# Altium schematic symbol library M202A.SchLib: 5 symbols
Pins are listed as number, name and electrical type; pins without a type are passive.

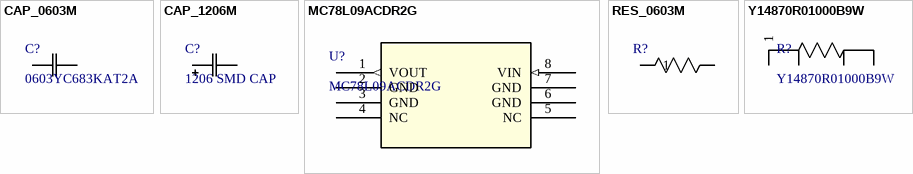
[diagram p0: symbols CAP_0603M to Y14870R01000B9W]

## CAP_0603M
designator C?, comment 0603YC683KAT2A
No Description Available; Mfr_Name: KYOCERA AVX; Type: DEV; Copyright: Copyright (C) 2022 Ultra Librarian. All rights reserved.; Manufacturer_Part_Number: 0603YC683KAT2A; RefDes: RefDes
footprint CAP_0603M
pins: 1 11, 2 12

## CAP_1206M
designator C?, comment 1206 SMD CAP
No Description Available; Mfr_Name: NTE Electronics; Manufacturer_Part_Number: SMC1206K183; Type: DEV; Copyright: Copyright (C) 2022 Ultra Librarian. All rights reserved.; Digi-Key_Part_Number_1: 2368-SMC1206K183-ND; RefDes: RefDes
footprint CAP_1206M (Footprint not found)
pins: 1, 2

## MC78L09ACDR2G
designator U?
No Description Available; Mfr_Name: onsemi; Copyright: Copyright (C) 2022 Ultra Librarian. All rights reserved.; Manufacturer_Part_Number: MC78L09ACDR2G; Digi-Key_Part_Number_1: MC78L09ACDR2GOSCT-ND; Digi-Key_Part_Number_2: MC78L09ACDR2GOSDKR-ND; Digi-Key_Part_Number_3: MC78L09ACDR2GOSTR-ND; Digi-Key_Part_Number_4: 2156-MC78L09ACDR2G-OS-ND; RefDes: RefDes; Type: DEV
footprint SOIC8_ONS
pins: 1 VOUT (out), 2 GND (power), 3 GND (power), 4 NC, 5 NC, 6 GND (power), 7 GND (power), 8 VIN (in)

## RES_0603M
designator R?
No Description Available; Mfr_Name: CTS Components; Manufacturer_Part_Number: 73L2R56J; Copyright: Copyright (C) 2022 Ultra Librarian. All rights reserved.; Digi-Key_Part_Number_1: 73L2R56JTR-ND; Digi-Key_Part_Number_2: 73L2R56JCT-ND; Digi-Key_Part_Number_3: 73L2R56JDKR-ND; RefDes: RefDes; Type: DEV
footprint RES_0603 (Footprint not found)
pins: 1, 2

## Y14870R01000B9W
designator R?
No Description Available; Mfr_Name: Vishay; Copyright: Copyright (C) 2022 Ultra Librarian. All rights reserved.; Manufacturer_Part_Number: Y14870R01000B9W; Digi-Key_Part_Number_1: Y1487-.01-ND; RefDes: RefDes; Type: DEV
footprint Y1487B_VIS
pins: 1, 2, 3, 4